# Altium footprint library SeniorProject.PcbLib: 26 footprints (part 2 of 2)
Each footprint in its own frame and in the unit in brackets; x right, y up, seen from the top. Pads: shape width x height; smd on the part's side, far side on the other; paste and mask are expansions set on the pad; w line width, h text height; cw(c..) or ccw(c..) is an arc to the next point about the centre after c.
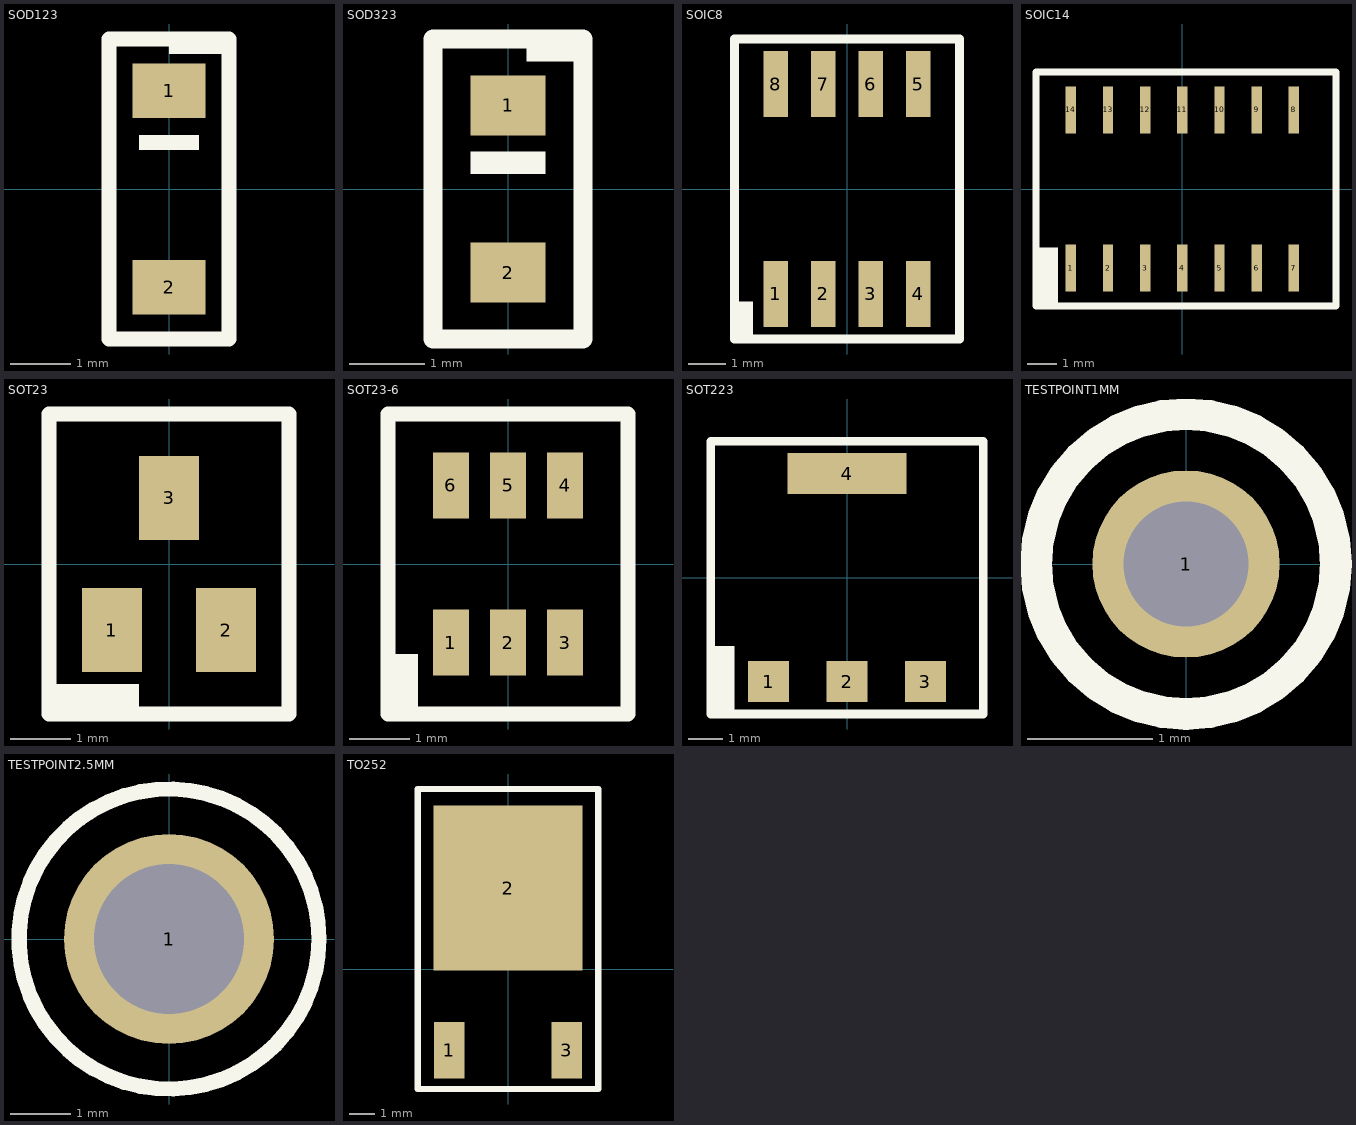
[diagram p1: the footprints below, top view; thin cyan lines are the x and y axes]

## SOD123 [mm]
pads (2):
  rect 1.22x0.91 smd: 1(0,1.635) 2(0,-1.635)
Top Overlay:
  rectangle: 0,2.25 1,2.5
  rectangle: -0.5,0.65 0.5,0.9
  lines w0.25: -1,-2.5 -1,2.5 1,2.5 1,-2.5 -1,-2.5
3D body "SOD123.stp": height 1.35, standoff 0, extent -0.85,-1.925 0.85,1.925

## SOD323 [mm]
pads (2):
  rect 1x0.8 smd: 1(0,1.115) 2(0,-1.115)
Top Overlay:
  rectangle: 0.25,1.7 1,2
  rectangle: -0.5,0.2 0.5,0.5
  lines w0.25: -1,-2 1,-2 1,2 -1,2 -1,-2
3D body "SOD323.stp": height -0.4, standoff -1.55, extent -0.725,-1.35 0.725,1.35

## SOIC8 [mm]
pads (8):
  rect 0.65x1.75 smd: 1(-1.905,-2.8) 2(-0.635,-2.8) 3(0.635,-2.8) 4(1.905,-2.8) 5(1.905,2.8) 6(0.635,2.8) 7(-0.635,2.8) 8(-1.905,2.8)
Top Overlay:
  rectangle: -3,-4 -2.5,-3
  lines w0.25: -3,-4 3,-4 3,4 -3,4 -3,-4
3D body "SIOC8.stp": height 1.95, standoff 0, extent -2.502,-3.099 2.502,3.099

## SOIC14 [mm]
pads (14):
  rect 0.35x1.6 smd: 1(-3.81,-2.7) 2(-2.54,-2.7) 3(-1.27,-2.7) 4(0,-2.7) 5(1.27,-2.7) 6(2.54,-2.7) 7(3.81,-2.7) 8(3.81,2.7) 9(2.54,2.7) 10(1.27,2.7) 11(0,2.7) 12(-1.27,2.7) 13(-2.54,2.7) 14(-3.81,2.7)
Top Overlay:
  rectangle: -5,-4 -4.25,-2
  lines w0.25: -5,-4 -5,4 5.25,4 5.25,-4 -5,-4
3D body "SOIC14.stp": height 1.59, standoff -0.01, extent -4.318,-3.022 4.318,3.023

## SOT23 [mm]
pads (3):
  rect 1x1.4 smd: 1(-0.95,-1.1) 2(0.95,-1.1) 3(0,1.1)
Top Overlay:
  rectangle: -2,-2.5 -0.5,-2
  lines w0.25: -2,-2.5 -2,2.5 2,2.5 2,-2.5 -2,-2.5
3D body "SOT23.step": height 1.1, standoff 0, extent -1.5,-1.2 1.5,1.2

## SOT23-6 [mm]
pads (6):
  rect 0.6x1.1 smd: 1(-0.95,-1.31) 2(0,-1.31) 3(0.95,-1.31) 4(0.95,1.31) 5(0,1.31) 6(-0.95,1.31)
Top Overlay:
  rectangle: -2,-2.5 -1.5,-1.5
  lines w0.25: -2,-2.5 -2,2.5 2,2.5 2,-2.5 -2,-2.5
3D body "SOT23-6.stp": height -0.42, standoff -1.6, extent -1.5,-1.418 1.5,1.418

## SOT223 [mm]
pads (4):
  rect 1.2x1.2 smd: 1(-2.3,-3.05) 2(0,-3.05) 3(2.3,-3.05)
  rect 3.5x1.2 smd: 4(0,3.05)
Top Overlay:
  rectangle: -4,-4 -3.3,-2
  lines w0.25: -4,-4 -4,4 4,4 4,-4 -4,-4
3D body "SOT-223.STEP": height -0.4, standoff -2.1, extent -3.25,-3.445 3.25,3.445
3D body: height 0.25, standoff -7, extent -3.35,3.7 -3.35,3.7

## TESTPOINT1MM [mm]
pads (1):
  round 1.5 hole 1: 1(0,0)
Top Overlay:
  circle w0.254: c0,0 r1.2
Bottom Overlay:
  circle w0.254: c0,0 r1.2

## TESTPOINT2.5MM [mm]
pads (1):
  round 3.5 hole 2.5: 1(0,0)
Top Overlay:
  circle w0.254: c0,0 r2.5
Bottom Overlay:
  circle w0.254: c0,0 r2.5

## TO252 [mm]
pads (3):
  rect 1.2x2.2 smd: 1(-2.28,-3.15) 3(2.28,-3.15)
  rect 5.8x6.4 smd: 2(0,3.15)
Top Overlay:
  lines w0.25: -3.5,-4.65 3.5,-4.65 3.5,7 -3.5,7 -3.5,-4.65
3D body "TO252.step": height 2.3, standoff -0.05, extent -3.25,-3.5 3.25,5.2